# Altium schematic symbol library TouchBoard.SCHLIB: 7 symbols
Pins are listed as number, name and electrical type; pins without a type are passive.

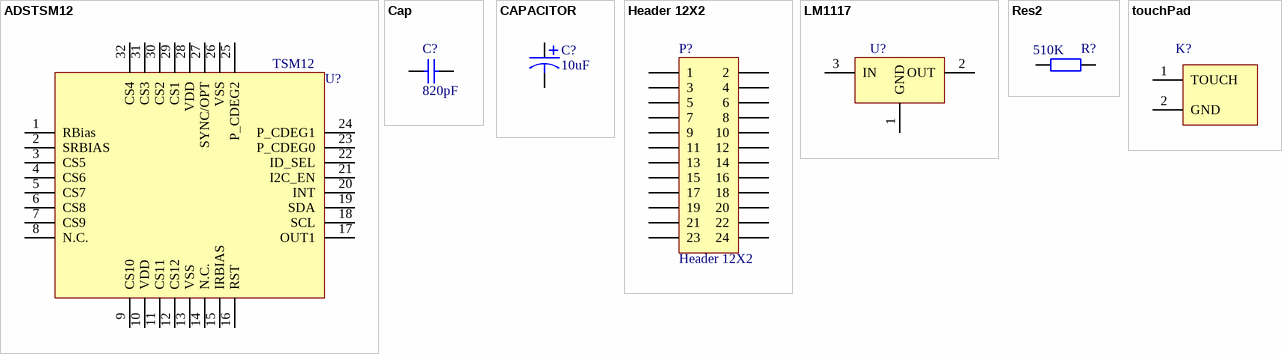
[diagram p0: symbols ADSTSM12 to touchPad]

## ADSTSM12
designator U?, comment TSM12
触摸芯片，TSM12M，MLF-32封装
footprint MLF-32
pins: 1 RBias, 2 SRBIAS, 3 CS5, 4 CS6, 5 CS7, 6 CS8, 7 CS9, 8 N.C., 9 CS10, 10 VDD, 11 CS11, 12 CS12, 13 VSS, 14 N.C., 15 IRBIAS, 16 RST, 17 OUT1, 18 SCL, 19 SDA, 20 INT, 21 I2C_EN, 22 ID_SEL, 23 P_CDEG0, 24 P_CDEG1, 25 P_CDEG2, 26 VSS, 27 SYNC/OPT, 28 VDD, 29 CS1, 30 CS2, 31 CS3, 32 CS4

## Cap
designator C?, comment 820pF
贴片电容，0603
footprint 0603_C
pins: 1, 2

## CAPACITOR
designator C?, comment 10uF
贴片电容，1206
footprint RB.2/.4
footprint 1206_C
footprint CASE-B_3528
pins: 1, 2
2 alternate drawings of the same symbol

## Header 12X2
designator P?
Header, 12-Pin, Dual row, 2.0mm
footprint 12x2_2.0mm
pins: 1, 2, 3, 4, 5, 6, 7, 8, 9, 10, 11, 12, 13, 14, 15, 16, 17, 18, 19, 20, 21, 22, 23, 24

## LM1117
designator U?  (value not drawn)
footprint SOT-223
pins: 1 GND, 2 OUT, 3 IN

## Res2
designator R?, comment 510K
贴片电阻，0603
footprint 0603_R
pins: 1, 2

## touchPad
designator K?  (value not drawn)
footprint TOUCH_PAD
pins: 1 TOUCH, 2 GND